# EAGLE library part PINHD-2X5 (library pinhead)
PIN HEADER
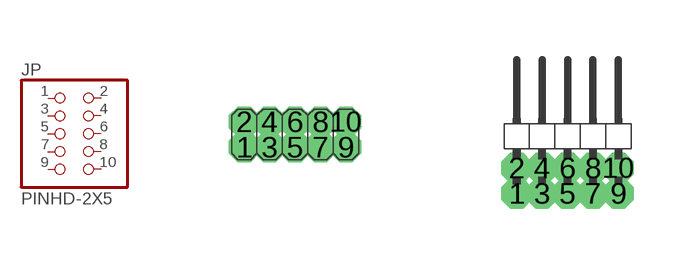
[diagram p22: symbol with the pads of 2X05; footprints 2X05, 2X05/90]

Designator prefix JP

## PINHD-2X5  [2X05]
1  1  pas
2  2  pas
3  3  pas
4  4  pas
5  5  pas
6  6  pas
7  7  pas
8  8  pas
9  9  pas
10  10  pas

## PINHD-2X5/90  [2X05/90]
Pads as for 2X05

## Footprint 2X05 (pad centres in mm)
PIN HEADER
drill 0.254 octagon: 1 -1.27,-0.318; 2 -1.27,0.318; 3 -0.635,-0.318; 4 -0.635,0.318; 5 0,-0.318; 6 0,0.318; 7 0.635,-0.318; 8 0.635,0.318; 9 1.27,-0.318; 10 1.27,0.318

## Footprint 2X05/90 (pad centres in mm)
PIN HEADER
drill 0.254 octagon: 1 -1.27,-1.587; 2 -1.27,-0.953; 3 -0.635,-1.587; 4 -0.635,-0.953; 5 0,-1.587; 6 0,-0.953; 7 0.635,-1.587; 8 0.635,-0.953; 9 1.27,-1.587; 10 1.27,-0.953